# Altium footprint library PcbLib2.PcbLib: 33 footprints (part 1 of 3)
Each footprint in its own frame and in the unit in brackets; x right, y up, seen from the top. Pads: shape width x height; smd on the part's side, far side on the other; paste and mask are expansions set on the pad; w line width, h text height; cw(c..) or ccw(c..) is an arc to the next point about the centre after c.
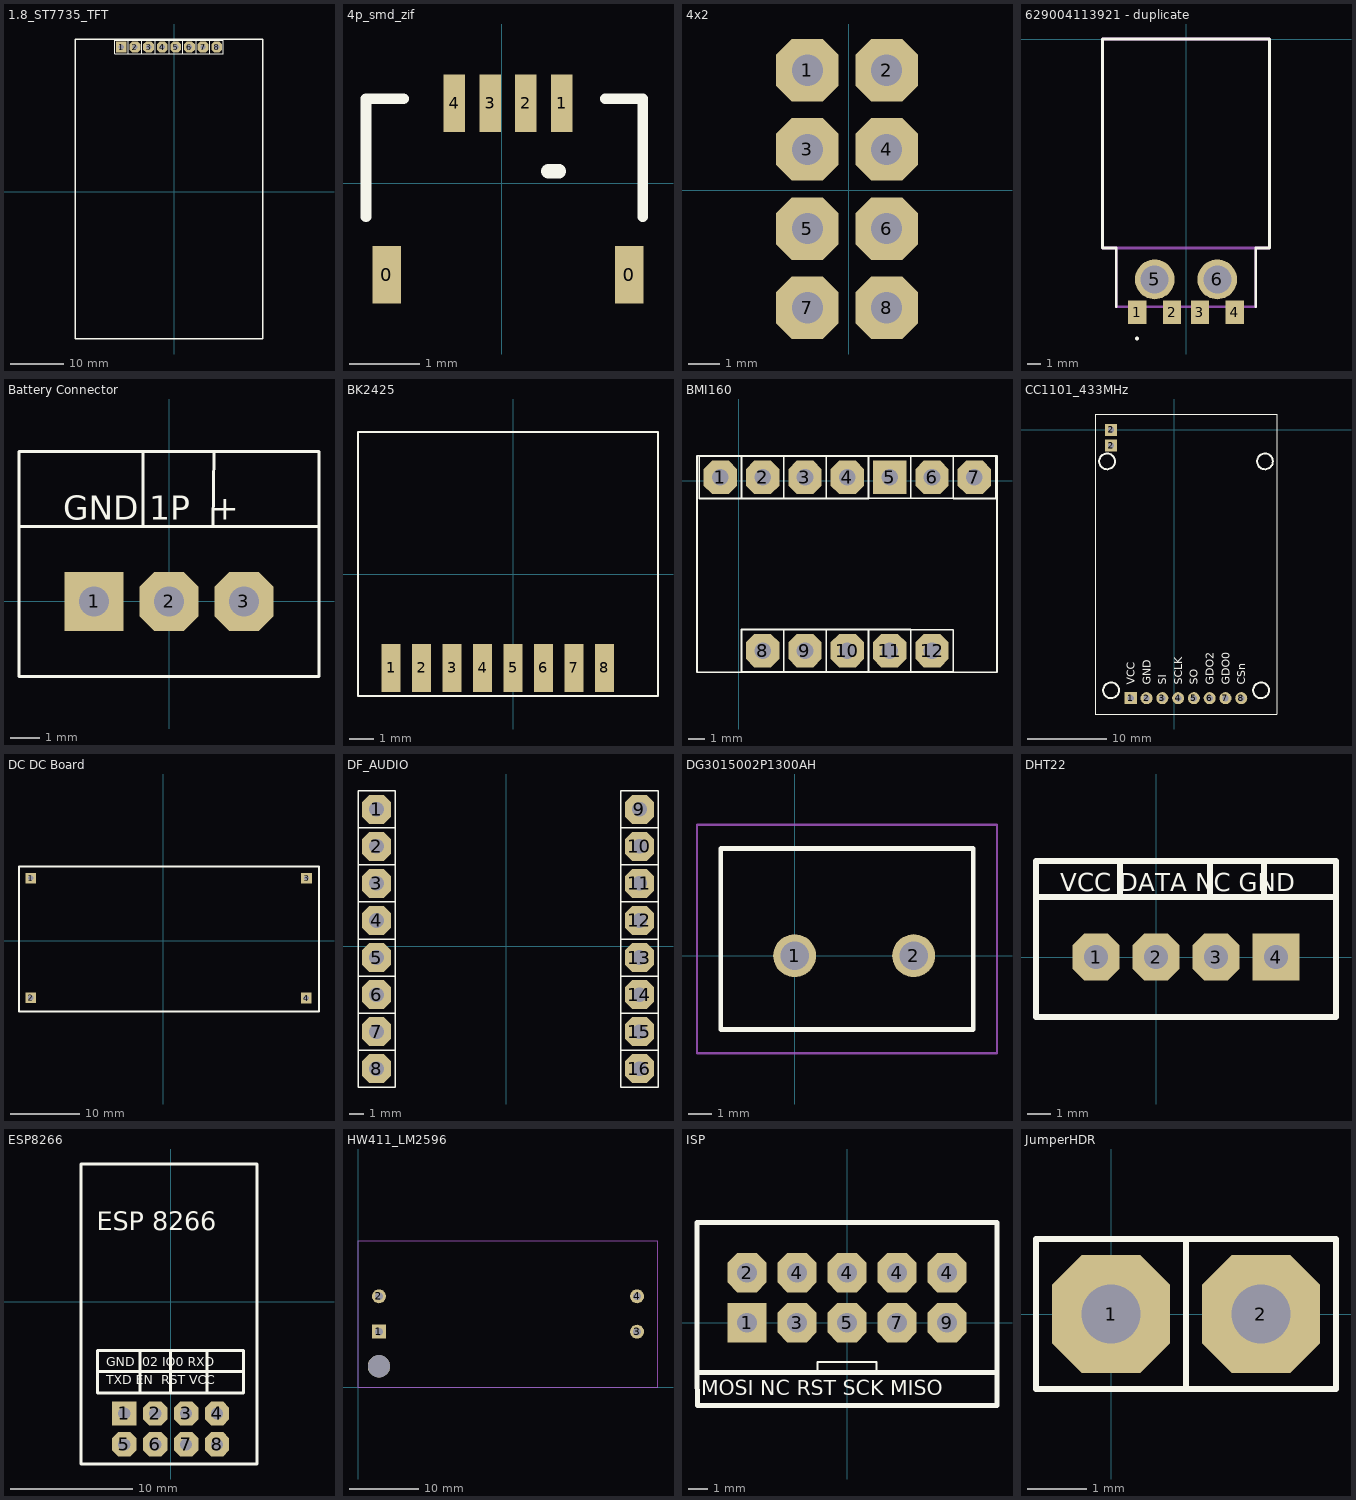
[diagram p0: the footprints below, top view; thin cyan lines are the x and y axes]

## 1.8_ST7735_TFT [mm]
pads (8):
  rect 2x2 hole 1: 1(-9.89,27)
  oct 2x2 hole 1: 2(-7.35,27) 3(-4.81,27) 4(-2.27,27) 5(0.27,27) 6(2.81,27) 7(5.35,27) 8(7.89,27)
Top Overlay:
  lines w0.1: -8.62,25.73 -11.16,25.73 -11.16,28.27 -8.62,28.27 ; -8.62,25.73 -6.08,25.73 ; -8.62,25.73 -8.62,28.27 ; -8.62,28.27 -6.08,28.27 ; -6.08,25.73 -3.54,25.73 ; -6.08,25.73 -6.08,28.27 ; -6.08,25.73 -6.08,28.27 ; -6.08,28.27 -3.54,28.27 ; -3.54,25.73 -1,25.73 ; -3.54,25.73 -3.54,28.27 ; -3.54,28.27 -1,28.27 ; -1,25.73 1.54,25.73 ; -1,25.73 -1,28.27 ; -1,25.73 -1,28.27 ; -1,28.27 1.54,28.27 ; 1.54,25.73 4.08,25.73 ; 1.54,25.73 1.54,28.27 ; 1.54,28.27 4.08,28.27 ; 4.08,25.73 6.62,25.73 ; 4.08,25.73 4.08,28.27 ; 4.08,25.73 4.08,28.27 ; 4.08,28.27 6.62,28.27 ; 6.62,25.73 9.16,25.73 ; 6.62,25.73 6.62,28.27 ; 6.62,28.27 9.16,28.27 ; 9.16,25.73 9.16,28.27 ; 9.16,25.73 9.16,28.27
  lines w0.254: -18.5,-27.5 16.5,-27.5 16.5,28.5 -18.5,28.5 -18.5,-27.5

## 4p_smd_zif [mil]
pads (6):
  rect 16x32 smd: 0(-64.54,-51.13) 0(71.46,-51.13)
  rect 12x32 smd: 1(33.46,44.87) 2(13.46,44.87) 3(-6.54,44.87) 4(-26.54,44.87)
Top Overlay:
  lines w6: -76.04,-18.63 -76.04,47.37 -55.04,47.37 ; 57.96,47.37 78.96,47.37 78.96,-18.63
  lines w8: 25.96,6.87 31.96,6.87

## 4x2 [mm]
pads (8):
  oct 2x2 hole 1: 1(-1.321,3.849) 2(1.219,3.849) 3(-1.321,1.309) 4(1.219,1.309) 5(-1.321,-1.231) 6(1.219,-1.231) 7(-1.321,-3.771) 8(1.219,-3.771)

## 629004113921 - duplicate [mm]
pads (6):
  rect 1.3x1.7 smd: 1(-3.5,-19.6) 2(-1,-19.6) 3(1,-19.6) 4(3.5,-19.6)
  round 2.85 hole 2: 5(-2.25,-17.25) 6(2.25,-17.25)
Top Overlay:
  circle w0.2: c-3.512,-21.482 r0.041
  lines w0.2: -5,-19.209 -5,-15 -6,-15 -6,0 6,0 6,-15 5,-15 5,-19.209
Mechanical 13:
  lines w0.2: -5,-15.05 -5,-19.209 5,-19.209 5,-15.025 ; -6,-15 -6,0 6,0 6,-15 -6,-15
3D body "629004113921.stp": height 2.2, standoff -2.3, extent -6,-19.825 6,-0.025

## Battery Connector [mm]
pads (3):
  rect 2x2 hole 1: 1(-2.54,0)
  oct 2x2 hole 1: 2(0,0) 3(2.54,0)
Top Overlay:
  lines w0.1: -0.888,5.06 -0.879,2.589 ; 1.489,2.57 1.517,5.079 ; -5.08,2.54 -5.08,5.08 5.08,5.08 5.08,2.54 ; -5.08,2.54 5.08,2.54 ; -5.08,2.54 -5.08,-2.54 5.08,-2.54 5.08,2.54
  text "GND 1P  +" at -3.574,2.767 h0.81

## BK2425 [mm]
pads (8):
  rect 0.8x2 all layers, no hole: 1(-5.08,-3.9) 2(-3.81,-3.9) 3(-2.54,-3.9) 4(-1.27,-3.9) 5(0,-3.9) 6(1.27,-3.9) 7(2.54,-3.9) 8(3.81,-3.9)
Top Overlay:
  lines w0.1: -6.458,-5.071 6.042,-5.071 6.042,5.929 -6.458,5.929 -6.458,-5.071

## BMI160 [mm]
pads (12):
  oct 2x2 hole 1: 1(-1.1,0.2) 2(1.44,0.2) 3(3.98,0.2) 4(6.52,0.2) 6(11.6,0.2) 7(14.14,0.2) 8(1.44,-10.2) 9(3.98,-10.2) 10(6.52,-10.2) 11(9.06,-10.2) 12(11.6,-10.2)
  rect 2x2 hole 1: 5(9.06,0.2)
Top Overlay:
  lines w0.1: 7.75,1.47 12.85,1.47 ; 7.79,-1.063 12.89,-1.063 ; 10.33,-11.46 12.87,-11.46 12.87,-8.94 10.33,-8.94 ; 10.33,-1.06 10.33,1.46 ; 12.87,-1.07 12.87,1.47 ; 12.88,1.47 12.88,-1.067 15.42,-1.067 15.42,1.47 12.91,1.47 ; 0.17,-1.07 2.71,-1.07 ; 0.17,-1.07 0.17,1.47 ; 0.17,-1.07 -2.37,-1.07 -2.37,1.47 0.17,1.47 ; 0.17,1.47 2.456,1.47 2.71,1.47 ; 2.71,-11.47 5.25,-11.47 ; 2.71,-11.47 2.71,-8.93 ; 2.71,-11.47 0.17,-11.47 0.17,-8.93 2.71,-8.93 ; 2.71,-8.93 4.996,-8.93 5.25,-8.93 ; 2.71,-1.07 5.25,-1.07 ; 2.71,-1.07 2.71,1.47 ; 2.71,-1.07 2.71,1.47 ; 2.71,1.47 5.25,1.47 ; 5.25,-11.47 7.79,-11.47 ; 5.25,-11.47 5.25,-8.93 ; 5.25,-11.47 5.25,-8.93 ; 5.25,-8.93 7.79,-8.93 ; 5.25,-1.07 7.79,-1.07 7.79,1.47 7.536,1.47 5.25,1.47 ; 5.25,-1.07 5.25,1.47 ; 7.79,-11.47 10.33,-11.47 10.33,-8.93 10.076,-8.93 7.79,-8.93 ; 7.79,-11.47 7.79,-8.93 ; -2.5,-11.5 15.5,-11.5 15.5,1.5 -2.5,1.5 -2.5,-11.5

## CC1101_433MHz [mm]
pads (10):
  rect 1.524x1.524 hole 0.8: 1(-5.5,-34) 2(-8,-2) 2(-8,0)
  round 1.524 hole 0.8: 2(-3.5,-34) 3(-1.5,-34) 4(0.5,-34) 5(2.5,-34) 6(4.5,-34) 7(6.5,-34) 8(8.5,-34)
Top Overlay:
  circle w0.254: c11,-33 r1
  circle w0.254: c-8,-33 r1
  circle w0.254: c-8.5,-4 r1
  circle w0.254: c11.5,-4 r1
  lines w0.1: -10,-36 13,-36 13,2 -10,2 -10,-36
  text "CSn" at 9.014,-32.308 h1.02
  text "GDO0" at 7.014,-32.308 h1.02
  text "GDO2" at 5.014,-32.308 h1.02
  text "SO" at 3.014,-32.308 h1.02
  text "SCLK" at 1.014,-32.308 h1.02
  text "SI" at -0.986,-32.308 h1.02
  text "GND" at -2.986,-32.308 h1.02
  text "VCC" at -4.986,-32.308 h1.02

## DC DC Board [mil]
pads (4):
  rect 60x60 hole 30: 1(-750,354.33) 2(-750,-322.83) 3(810.24,354.33) 4(808.24,-324.02)
Top Overlay:
  lines w10: 808.24,-324.02 810.24,-326.02 ; -816.15,-399.72 880.7,-399.72 880.7,419.17 -816.15,419.17 -816.15,-399.72

## DF_AUDIO [mm]
pads (16):
  oct 2x2 hole 1: 1(-8.89,9.398) 2(-8.89,6.858) 3(-8.89,4.318) 4(-8.89,1.778) 5(-8.89,-0.762) 6(-8.89,-3.302) 7(-8.89,-5.842) 8(-8.89,-8.382) 9(9.144,9.398) 10(9.144,6.858) 11(9.144,4.318) 12(9.144,1.778) 13(9.144,-0.762) 14(9.144,-3.302) 15(9.144,-5.842) 16(9.144,-8.382)
Top Overlay:
  lines w0.1: -10.16,-7.112 -7.62,-7.112 ; -10.16,-7.112 -10.16,-4.572 ; -10.16,-7.112 -10.16,-9.652 -7.62,-9.652 -7.62,-9.398 -7.62,-7.112 ; -10.16,-4.572 -7.62,-4.572 ; -10.16,-4.572 -7.62,-4.572 ; -10.16,-4.572 -10.16,-2.032 ; -10.16,-2.032 -7.62,-2.032 ; -10.16,-2.032 -10.16,0.508 ; -10.16,0.508 -7.62,0.508 ; -10.16,0.508 -10.16,3.048 ; -10.16,0.508 -7.62,0.508 ; -10.16,3.048 -7.62,3.048 ; -10.16,3.048 -10.16,5.588 ; -10.16,5.588 -7.62,5.588 ; -10.16,5.588 -7.62,5.588 ; -10.16,5.588 -10.16,8.128 ; -10.16,8.128 -7.62,8.128 ; -10.16,8.128 -10.16,10.668 -7.62,10.668 -7.62,8.128 ; -7.62,-7.112 -7.62,-4.572 ; -7.62,-4.572 -7.62,-4.318 -7.62,-2.032 ; -7.62,-2.032 -7.62,0.508 ; -7.62,0.508 -7.62,0.762 -7.62,3.048 ; -7.62,3.048 -7.62,5.588 ; -7.62,5.588 -7.62,5.842 -7.62,8.128 ; 7.874,-7.112 10.414,-7.112 ; 7.874,-7.112 7.874,-4.572 ; 7.874,-7.112 7.874,-9.652 10.414,-9.652 10.414,-9.398 10.414,-7.112 ; 7.874,-4.572 10.414,-4.572 ; 7.874,-4.572 10.414,-4.572 ; 7.874,-4.572 7.874,-2.032 ; 7.874,-2.032 10.414,-2.032 ; 7.874,-2.032 7.874,0.508 ; 7.874,0.508 10.414,0.508 ; 7.874,0.508 7.874,3.048 ; 7.874,0.508 10.414,0.508 ; 7.874,3.048 10.414,3.048 ; 7.874,3.048 7.874,5.588 ; 7.874,5.588 10.414,5.588 ; 7.874,5.588 10.414,5.588 ; 7.874,5.588 7.874,8.128 ; 7.874,8.128 10.414,8.128 ; 7.874,8.128 7.874,10.668 10.414,10.668 10.414,8.128 ; 10.414,-7.112 10.414,-4.572 ; 10.414,-4.572 10.414,-4.318 10.414,-2.032 ; 10.414,-2.032 10.414,0.508 ; 10.414,0.508 10.414,0.762 10.414,3.048 ; 10.414,3.048 10.414,5.588 ; 10.414,5.588 10.414,5.842 10.414,8.128

## DG3015002P1300AH [mm]
pads (2):
  round 1.8 hole 1.2: 1(0,0) 2(5,0)
Top Overlay:
  lines w0.2: -3.1,-3.1 7.5,-3.1 7.5,4.5 -3.1,4.5 -3.1,-3.1
Mechanical 13:
  lines w0.1: -3.1,-3.1 7.5,-3.1 7.5,4.5 -3.1,4.5 -3.1,-3.1
Mechanical 15:
  lines w0.1: -4.1,-4.1 8.5,-4.1 8.5,5.5 -4.1,5.5 -4.1,-4.1
3D body "DG301-5.0-02P-13-00A_H_.stp": height 10.3, standoff -5, extent -3.1,-3.1 7.5,4.5

## DHT22 [mm]
pads (4):
  oct 2x2 hole 1: 1(-2.54,0) 2(0,0) 3(2.54,0)
  rect 2x2 hole 1: 4(5.08,0)
Top Overlay:
  lines w0.254: -5.08,2.54 -5.08,-2.54 7.62,-2.54 7.62,2.54 ; -5.08,2.54 7.62,2.54 ; -5.08,2.54 -5.08,4.064 -1.524,4.064 ; -1.524,4.064 -1.524,2.54 -1.524,3.81 -1.524,4.064 ; -1.524,4.064 2.286,4.064 ; 2.286,4.064 2.286,2.794 2.286,2.54 2.286,4.064 ; 2.286,4.064 4.572,4.064 ; 4.572,4.064 4.572,2.54 4.572,4.064 ; 4.572,4.064 7.62,4.064 7.62,2.54
  text "VCC DATA NC GND" at -4.064,2.794 h0.76

## ESP8266 [mm]
pads (8):
  rect 2x2 hole 1: 1(-3.8,-9.185)
  oct 2x2 hole 1: 2(-1.26,-9.185) 3(1.28,-9.185) 4(3.82,-9.185) 5(-3.8,-11.725) 6(-1.26,-11.725) 7(1.28,-11.725) 8(3.82,-11.725)
Top Overlay:
  lines w0.254: -6,-5.75 6,-5.75 ; -2.5,-7.5 -2.5,-4 ; 0,-7.5 0,-4 ; 3,-7.5 3,-4 ; -7.366,-13.335 7.112,-13.335 7.112,11.303 -7.366,11.303 -7.366,-13.335 ; -6,-7.5 -6,-4 6,-4 6,-7.5 -6,-7.5
  text "TXD EN  RST VCC" at -5.297,-6.797 h0.76
  text "GND I02 IO0 RXD" at -5.297,-5.297 h0.76
  text "ESP 8266" at -6.071,5.854 h1.52
3D body "User Library-ESP8266 ESP-01.step": height 9.88, standoff -1.8, extent -7.25,-13.175 7.25,11.625

## HW411_LM2596 [mm]
pads (5):
  rect 2x2 hole 1.1: 1(3,7.96)
  round 2 hole 1.1: 2(3,13.04) 3(40,7.96) 4(40,13.04)
  round 3.2 hole 3.2: ""(3,3)
Mechanical 1:
  lines w0.1: 0,0 43,0 43,21 0,21 0,0

## ISP [mm]
pads (10):
  rect 2x2 hole 1: 1(-5.08,0)
  oct 2x2 hole 1: 2(-5.08,2.54) 3(-2.54,0) 4(-2.54,2.54) 4(0,2.54) 4(2.54,2.54) 4(5.08,2.54) 5(0,0) 7(2.54,0) 9(5.08,0)
Top Overlay:
  lines w0.1: -1.5,-2.5 -1.5,-2 1.5,-2 1.5,-2.5
  lines w0.254: -7.62,-2.54 -7.6,-4.2 7.62,-4.2 7.62,-2.54 ; -7.62,-2.54 -7.62,5.08 7.62,5.08 7.62,-2.54 ; -7.62,-2.54 7.62,-2.54
  text "MOSI NC RST SCK MISO" at -7.397,-3.697 h0.76

## JumperHDR [mm]
pads (2):
  oct 2x2 hole 1: 1(0,0) 2(2.54,0)
Top Overlay:
  lines w0.1: 1.27,-1.27 1.27,1.27 ; 1.27,-1.27 -1.27,-1.27 -1.27,1.27 1.27,1.27 ; 1.27,-1.27 3.81,-1.27 3.81,1.27 3.556,1.27 1.27,1.27